# EAGLE library part BMC150 (library GTA04b7)
Bosch Sensortec BMC150
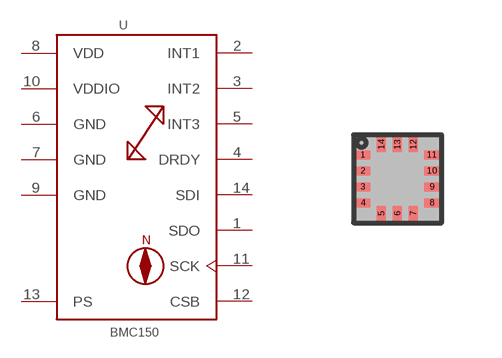
[diagram p4: symbol with the pads of BMC150; footprint BMC150]

Designator prefix -

## BMC150  [BMC150]
1  SDO
2  INT1  out
3  INT2  out
4  DRDY  out
5  INT3  out
6  GND  pwr
7  GND  pwr
8  VDD  pwr
9  GND  pwr
10  VDDIO  pwr
11  SCK  in
12  CSB  in
13  PS  in
14  SDI

## Footprint BMC150 (pad centres in mm)
Bosch Sensortec BMC150 package
smd 0.375 x 0.225: 1 -0.863,0.6; 2 -0.863,0.2; 3 -0.863,-0.2; 4 -0.863,-0.6; 8 0.862,-0.6; 9 0.862,-0.2; 10 0.862,0.2; 11 0.862,0.6
smd 0.225 x 0.375: 5 -0.4,-0.863; 6 0,-0.863; 7 0.4,-0.863; 12 0.4,0.862; 13 0,0.862; 14 -0.4,0.862